# EAGLE library part 74157-? (library ic-74)
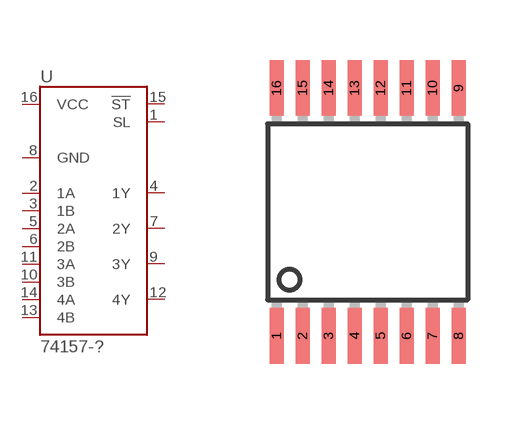
[diagram p5: symbol with the pads of TSSOP16; footprint TSSOP16]

Designator prefix U

## 74157-TSSOP  [TSSOP16]
1  SL
2  1A
3  1B
4  1Y
5  2A
6  2B
7  2Y
8  GND
9  3Y
10  3B
11  3A
12  4Y
13  4B
14  4A
15  !ST
16  VCC

## Footprint TSSOP16 (pad centres in mm)
smd 0.35 x 1.4: 1 -2.275,-3.1; 2 -1.625,-3.1; 3 -0.975,-3.1; 4 -0.325,-3.1; 5 0.325,-3.1; 6 0.975,-3.1; 7 1.625,-3.1; 8 2.275,-3.1; 9 2.275,3.1; 10 1.625,3.1; 11 0.975,3.1; 12 0.325,3.1; 13 -0.325,3.1; 14 -0.975,3.1; 15 -1.625,3.1; 16 -2.275,3.1